# Altium footprint library ELKO13_THT_90.PcbLib: 1 footprints
Each footprint in its own frame and in the unit in brackets; x right, y up, seen from the top. Pads: shape width x height; smd on the part's side, far side on the other; paste and mask are expansions set on the pad; w line width, h text height; cw(c..) or ccw(c..) is an arc to the next point about the centre after c.
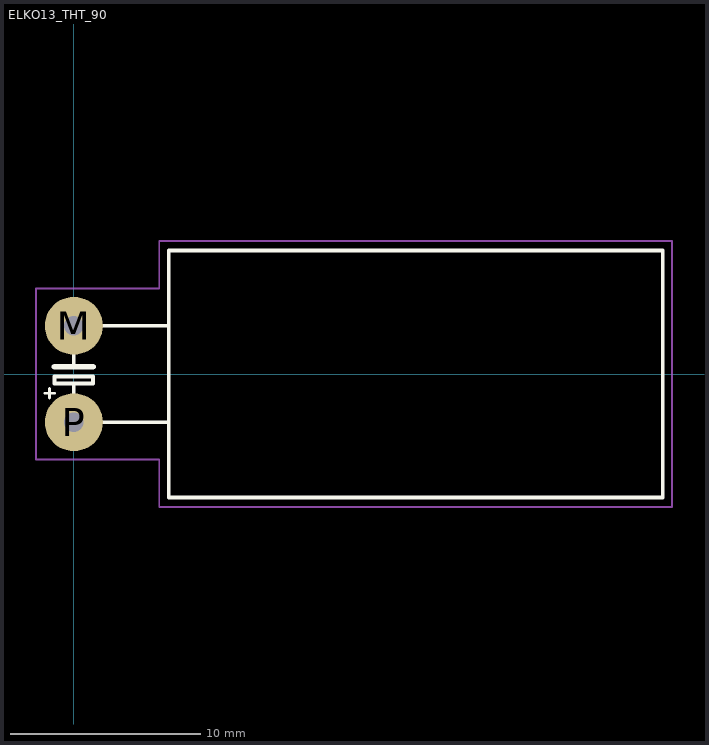
[diagram p0: the footprint, top view; thin cyan lines are the x and y axes]

## ELKO13_THT_90 [mil]
height 511.81
pads (2):
  round 120 hole 40: M(0,100) P(0,-100)
Top Overlay:
  lines w6: -60,-40 -40,-40 ; -50,-50 -50,-30
  lines w8: 0,-20 0,-100 194.49,-100 ; 0,15 0,100 194.49,100 ; -40,-20 -40,-5 40,-5 40,-20 -40,-20 ; 196.85,-255.91 196.85,255.91 1220.47,255.91 1220.47,-255.91 196.85,-255.91
  lines w12: -40,15 40,15
Mechanical 15:
  lines w3.94: -78.74,-177.17 -78.74,177.17 177.17,177.17 177.17,275.59 1240.16,275.59 1240.16,-275.59 177.17,-275.59 177.17,-177.17 -78.74,-177.17
3D body: height 509.79, standoff 0, extent 196.85,-255.9 1220.47,254.9